# Altium schematic symbol library KC_amp.SchLib: 6 symbols
Pins are listed as number, name and electrical type; pins without a type are passive.

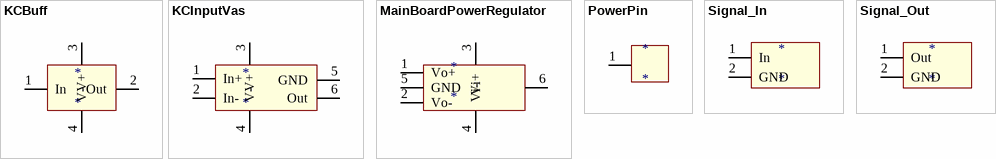
[diagram p0: symbols KCBuff to Signal_Out]

## KCBuff
designator *
King Cello Buffer Stage
footprint KCBuff
pins: 1 In, 2 Out, 3 V+, 4 V-

## KCInputVas
designator *
King Cello Input Stage and VAS
footprint KCIn_VAS
pins: 1 In+, 2 In-, 3 V+, 4 V-, 5 GND, 6 Out

## MainBoardPowerRegulator
designator *
King Cello Main Board Power Regulator
footprint KC_MBPowerReg
pins: 1 Vo+, 2 Vo-, 3 Vi+, 4 Vi-, 5 GND, 6

## PowerPin
designator *
Power Pin
footprint SinglePin (Single Pin For Power Wire or GND)
pins: 1

## Signal_In
designator *
Signal In
footprint Signal_Terminal
pins: 1 In, 2 GND

## Signal_Out
designator *
Signal Out
footprint Signal_Terminal
pins: 1 Out, 2 GND